# EAGLE library part DUMMY_IC_16 (library _mtvl_ic)
DUMMY IC
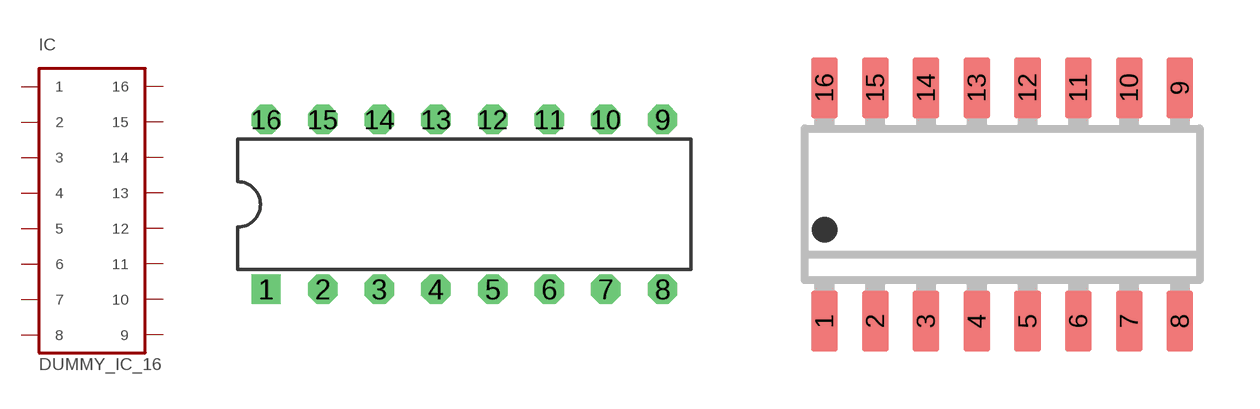
[diagram p26: symbol with the pads of DIL16_; footprints DIL16_, SO16_]

Designator prefix IC

## DUMMY_IC_16P  [DIL16_]
1  1
2  2
3  3
4  4
5  5
6  6
7  7
8  8
9  9
10  10
11  11
12  12
13  13
14  14
15  15
16  16

## DUMMY_IC_16D  [SO16_]
Pads as for DIL16_

## DUMMY_IC_16P'  [DIL16_TW]
Pads as for DIL16_

## DUMMY_IC_16D'  [SO16_TW]
Pads as for DIL16_

## Footprint DIL16_ (pad centres in mm)
Dual In Line Package
drill 0.813 square: 1 -8.89,-3.81
drill 0.813 octagon: 2 -6.35,-3.81; 3 -3.81,-3.81; 4 -1.27,-3.81; 5 1.27,-3.81; 6 3.81,-3.81; 7 6.35,-3.81; 8 8.89,-3.81; 9 8.89,3.81; 10 6.35,3.81; 11 3.81,3.81; 12 1.27,3.81; 13 -1.27,3.81; 14 -3.81,3.81; 15 -6.35,3.81; 16 -8.89,3.81

## Footprint SO16_ (pad centres in mm)
SMALL OUTLINE INTEGRATED CIRCUIT body 3.9 mm/JEDEC MS-012AC
smd 0.66 x 1.524: 1 -4.445,-2.921; 2 -3.175,-2.921; 3 -1.905,-2.921; 4 -0.635,-2.921; 5 0.635,-2.921; 6 1.905,-2.921; 7 3.175,-2.921; 8 4.445,-2.921; 9 4.445,2.921; 10 3.175,2.921; 11 1.905,2.921; 12 0.635,2.921; 13 -0.635,2.921; 14 -1.905,2.921; 15 -3.175,2.921; 16 -4.445,2.921

## Footprint DIL16_TW (pad centres in mm)
Dual In Line Package
drill 0.813 long: 1 -8.89,-3.81; 2 -6.35,-3.81; 3 -3.81,-3.81; 4 -1.27,-3.81; 5 1.27,-3.81; 6 3.81,-3.81; 7 6.35,-3.81; 8 8.89,-3.81; 9 8.89,3.81; 10 6.35,3.81; 11 3.81,3.81; 12 1.27,3.81; 13 -1.27,3.81; 14 -3.81,3.81; 15 -6.35,3.81; 16 -8.89,3.81

## Footprint SO16_TW (pad centres in mm)
Small Outline package 150 mil
smd 0.61 x 2.032: 1 -4.445,-2.6; 2 -3.175,-2.6; 3 -1.905,-2.6; 4 -0.635,-2.6; 5 0.635,-2.6; 6 1.905,-2.6; 7 3.175,-2.6; 8 4.445,-2.6; 9 4.445,2.6; 10 3.175,2.6; 11 1.905,2.6; 12 0.635,2.6; 13 -0.635,2.6; 14 -1.905,2.6; 15 -3.175,2.6; 16 -4.445,2.6